# Altium footprint library RPOT.PcbLib: 4 footprints
Each footprint in its own frame and in the unit in brackets; x right, y up, seen from the top. Pads: shape width x height; smd on the part's side, far side on the other; paste and mask are expansions set on the pad; w line width, h text height; cw(c..) or ccw(c..) is an arc to the next point about the centre after c.
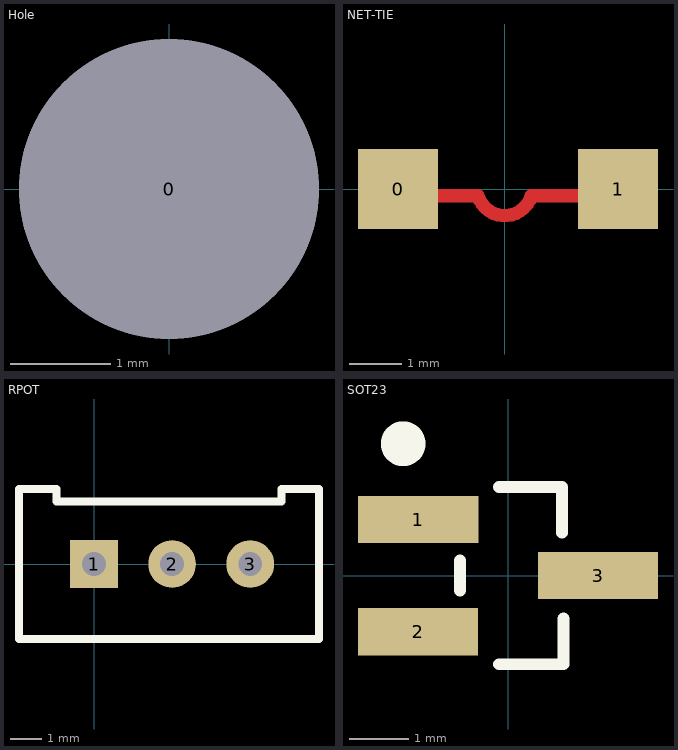
[diagram p0: the footprints below, top view; thin cyan lines are the x and y axes]

## Hole [mm]
pads (1):
  round 3 hole 3: 0(0,0)

## NET-TIE [mil]
pads (2):
  rect 60x60 smd mask+0: 0(-80,0) 1(85,0)
Top Layer:
  lines w10: -50,-5 -20,-5 ccw(c0,0.83) 20,-5 55,-5

## RPOT [mil]
pads (3):
  rect 60x60 hole 30: 1(0,0)
  round 60 hole 30: 2(98.43,0) 3(196.85,0)
Top Overlay:
  lines w10: -94.49,-94.49 283.46,-94.49 283.46,78.74 283.46,94.49 236.22,94.49 236.22,78.74 -47.24,78.74 -47.24,94.49 -94.49,94.49 -94.49,78.74 -94.49,-94.49

## SOT23 [mil] "SOT23, 3-Leads, Body 3.0x2.5mm (max), Pitch 0.95mm, IPC Low Density"
height 53.15
pads (3):
  rect 80.24x31.5 smd: 1(-60,37.4)
  rect 80x31.5 smd: 2(-60,-37.4) 3(60,0)
Top Overlay:
  circle w20: c-69.92,88 r4.92
  lines w7.87: -32,-10 -32,10 ; -6,-59.06 37,-59.06 37,-28.54 ; -6,59.06 36,59.06 36,28.54
3D body "User Library-SOT23-2.step": height 42.52, standoff 0, extent -51.97,-59.05 51.97,59.06